# Altium footprint library DC-DC CONVERTER.PcbLib: 3 footprints
Each footprint in its own frame and in the unit in brackets; x right, y up, seen from the top. Pads: shape width x height; smd on the part's side, far side on the other; paste and mask are expansions set on the pad; w line width, h text height; cw(c..) or ccw(c..) is an arc to the next point about the centre after c.
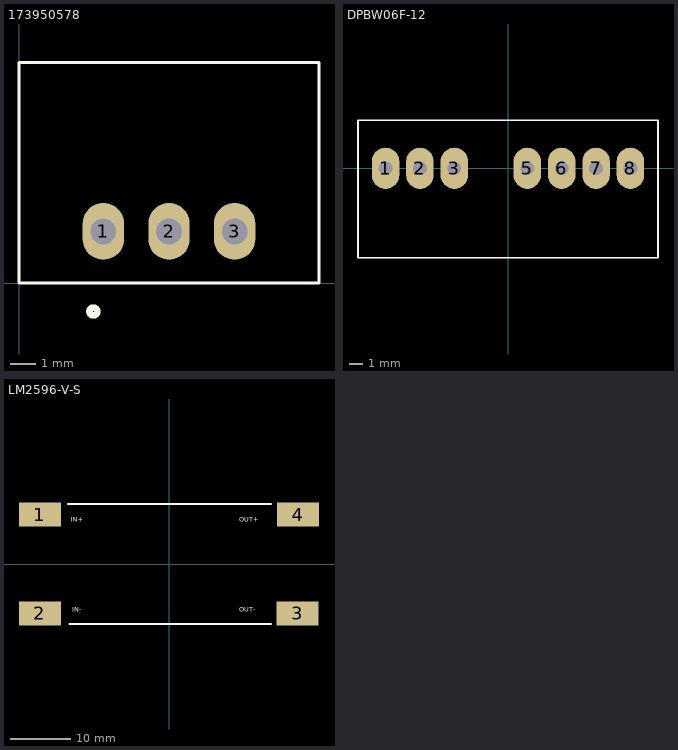
[diagram p0: the footprints below, top view; thin cyan lines are the x and y axes]

## 173950578 [mm]
pads (3):
  oval 1.6x2.2 hole 1 unplated: 1(3.26,2) 2(5.8,2) 3(8.34,2)
Top Overlay:
  circle w0.254: c2.875,-1.1 r0.152
  lines w0.127: 0,0 0,8.525 11.6,8.525 11.6,0 0,0
3D body "STEP-MAGIC-FDSM-SIP-3-rev1.STP": height 10.51, standoff -3.99, extent 0.025,0.075 11.625,8.625

## DPBW06F-12 [mm]
pads (7):
  oval 2x3 hole 1: 1(-8.9,0) 2(-6.4,0) 3(-3.9,0) 5(1.4,0) 6(3.9,0) 7(6.4,0) 8(8.9,0)
Top Overlay:
  lines w0.127: -10.9,-6.5 -10.9,3.5 10.9,3.5 10.9,-6.5 -10.9,-6.5

## LM2596-V-S [mm]
pads (4):
  rect 7x4 smd: 1(-21.525,8.242) 2(-21.525,-8.242) 3(21.475,-8.242) 4(21.525,8.243)
Top Overlay:
  lines w0.3: -16.852,10 17,10 ; -16.623,-9.992 17,-9.992
  text "OUT-" at 11.729,-7.988 h0.8
  text "OUT+" at 11.729,7.012 h0.8
  text "IN-" at -16.115,-7.988 h0.8
  text "IN+" at -16.369,7.012 h0.8
3D body "User Library-DC-DC MODULE LM2596s.STEP": height 13.21, standoff -0.6, extent -21.711,-10.576 21.789,10.424